# Altium schematic symbol library LM2596_DC_TO_DC_Schematiclibrary1.SchLib: 8 symbols
Pins are listed as number, name and electrical type; pins without a type are passive.

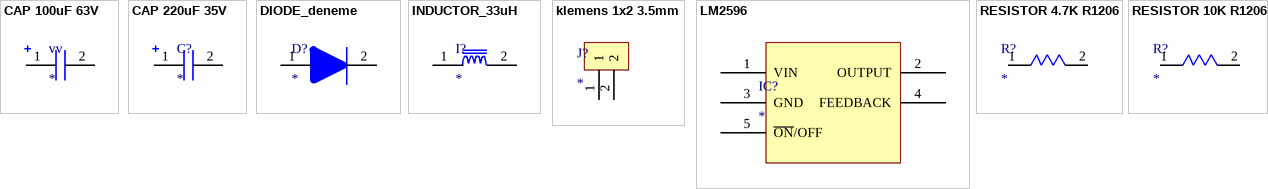
[diagram p0: symbols CAP 100uF 63V to RESISTOR 10K R1206]

## CAP 100uF 63V
designator vv
CAPACITOR
footprint CAPACITOR
pins: 1, 2

## CAP 220uF 35V
designator C?
footprint CAPACITOR
pins: 1, 2

## DIODE_deneme
designator D?
diode deneme yaptık kafamıza göre
footprint DIODE_deneme (Molded Diode, 2-Leads, Body 4.25x2.67mm, IPC Medium Density)
pins: 1, 2

## INDUCTOR_33uH
designator I?
INDUCTOR_33uH_SRR1280
footprint SRR1280_Inductor
pins: 1, 2

## klemens 1x2 3.5mm
designator J?
Klemens 1x2 3.5mm
footprint klemens 1x2 3.5mm
pins: 1, 2

## LM2596
designator IC?
REGULATOR  DC TO DC ,DUCK CONVERTER
footprint D2PAK
pins: 1 VIN, 2 OUTPUT, 3 GND, 4 FEEDBACK, 5 ~{ON}/OFF

## RESISTOR 4.7K R1206
designator R?
R1206 RESISTER
footprint R1206 RESISTER
pins: 1, 2

## RESISTOR 10K R1206
designator R?
R1206 RESISTER
footprint R1206 RESISTER
pins: 1, 2